# Altium schematic symbol library jp_2021.3.10.SchLib: 2 symbols
Pins are listed as number, name and electrical type; pins without a type are passive.

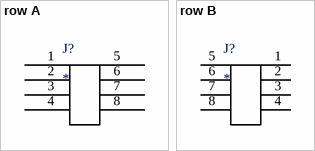
[diagram p0: symbols row A to row B]

## row A
designator J?
footprint row A
pins: 1 12, 2 13, 3 14, 4 15, 5 8, 6 9, 7 10, 8 11

## row B
designator J?
footprint row B
pins: 1 8, 2 9, 3 10, 4 11, 5, 6, 7, 8